# Altium schematic symbol library LPS25H.SchLib: 1 symbol
Pins are listed as number, name and electrical type; pins without a type are passive.

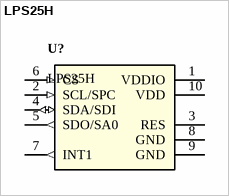
[diagram p0: symbol LPS25H]

## LPS25H
designator U?
MEMS pressure sensor
pins: 1 VDDIO (power), 2 SCL/SPC (in), 3 RES (power), 4 SDA/SDI (io), 5 SDO/SA0 (out), 6 CS (in), 7 INT1 (out), 8 GND (power), 9 GND (power), 10 VDD (power)